# Altium footprint library JST_SH_CONNECTOR.PcbLib: 6 footprints
Each footprint in its own frame and in the unit in brackets; x right, y up, seen from the top. Pads: shape width x height; smd on the part's side, far side on the other; paste and mask are expansions set on the pad; w line width, h text height; cw(c..) or ccw(c..) is an arc to the next point about the centre after c.
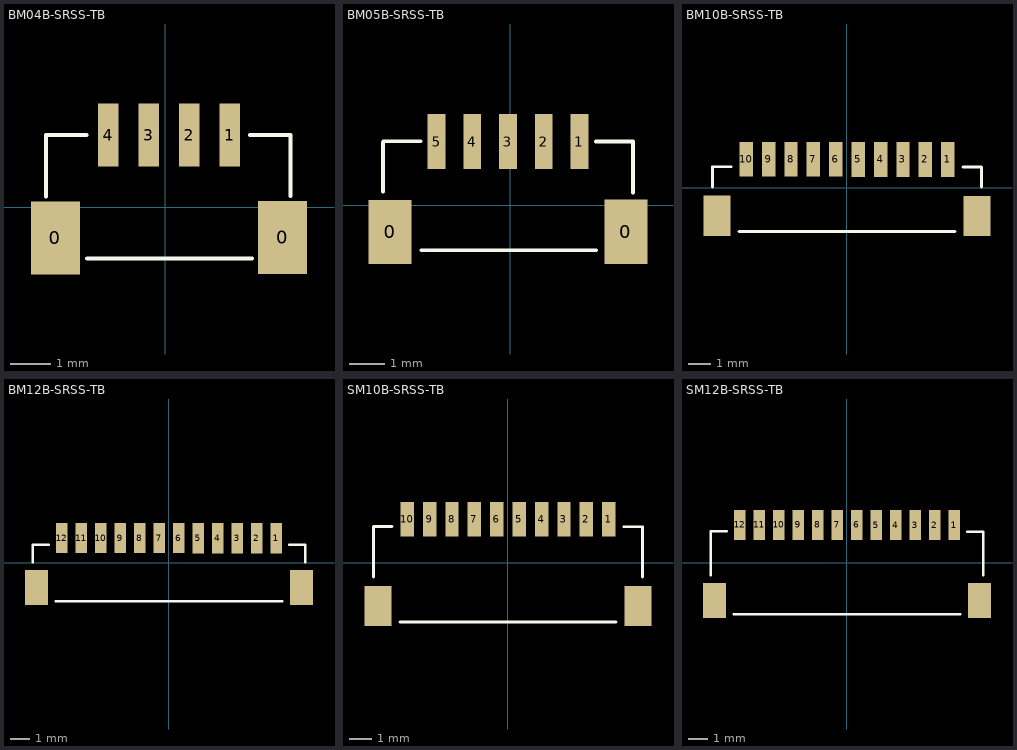
[diagram p0: the footprints below, top view; thin cyan lines are the x and y axes]

## BM04B-SRSS-TB [mm]
pads (6):
  rect 1.2x1.8 smd: 0(-2.712,-0.754) 0(2.887,-0.747)
  rect 0.5x1.55 smd: 1(1.587,1.778) 2(0.587,1.778) 3(-0.413,1.778) 4(-1.412,1.778)
Top Overlay:
  lines w0.102: -2.945,0.262 -2.945,1.762 ; -2.945,1.786 -1.945,1.786 ; -1.929,-1.262 2.135,-1.262 ; 2.087,1.778 3.087,1.778 3.087,0.278
3D body "BM04B-SRSS-TB.STEP": height 4.25, standoff -0.07, extent -2.924,-1.194 3.076,2.406

## BM05B-SRSS-TB [mm]
pads (7):
  rect 1.2x1.8 smd: 0(-3.359,-0.754) 0(3.241,-0.747)
  rect 0.5x1.55 smd: 1(1.941,1.778) 2(0.941,1.778) 3(-0.059,1.778) 4(-1.059,1.778) 5(-2.059,1.778)
Top Overlay:
  lines w0.102: -3.559,0.368 -3.559,1.762 ; -3.556,1.786 -2.503,1.786 ; -2.487,-1.262 2.413,-1.262 ; 2.4,1.778 3.442,1.778 3.441,0.343
3D body "BM05B-SRSS-TB.STEP": height 4.25, standoff -0.07, extent -3.551,-1.246 3.449,2.354

## BM10B-SRSS-TB [mm]
pads (12):
  rect 0.6x1.55 smd: 1(4.5,1.259) 2(3.5,1.259) 3(2.5,1.259) 4(1.5,1.259) 5(0.5,1.259) 6(-0.5,1.266) 7(-1.5,1.266) 8(-2.5,1.266) 9(-3.5,1.266) 10(-4.5,1.266)
  rect 1.2x1.8 smd: ""(-5.8,-1.259) ""(5.8,-1.266)
Top Overlay:
  lines w0.127: -6,0.034 -6,0.934 -5.175,0.934 ; -4.827,-1.966 4.827,-1.966 ; 5.175,0.926 6,0.926 6,0.026
3D body "BM10B-SRSS-TB.STEP": height 4.25, standoff -0.07, extent -6.003,-1.934 5.997,1.666

## BM12B-SRSS-TB [mm]
pads (14):
  rect 0.6x1.55 smd: 1(5.5,1.259) 2(4.5,1.259) 3(3.5,1.259) 4(2.5,1.259) 5(1.5,1.259) 6(0.5,1.266) 7(-0.5,1.266) 8(-1.5,1.266) 9(-2.5,1.266) 10(-3.5,1.266) 11(-4.5,1.266) 12(-5.5,1.266)
  rect 1.2x1.8 smd: ""(-6.8,-1.259) ""(6.8,-1.266)
Top Overlay:
  lines w0.127: -7,0.034 -7,0.934 -6.175,0.934 ; -5.827,-1.966 5.819,-1.966 ; 6.175,0.926 7,0.926 7,0.026
3D body "BM12B-SRSS-TB.STEP": height 4.25, standoff -0.07, extent -6.997,-1.934 7.003,1.666

## SM10B-SRSS-TB [mm]
pads (12):
  rect 0.6x1.55 smd: 1(4.5,1.934) 2(3.5,1.934) 3(2.5,1.934) 4(1.5,1.934) 5(0.5,1.934) 6(-0.5,1.941) 7(-1.5,1.941) 8(-2.5,1.941) 9(-3.5,1.941) 10(-4.5,1.941)
  rect 1.2x1.8 smd: ""(-5.8,-1.941) ""(5.8,-1.941)
Top Overlay:
  lines w0.127: -6,-0.649 -6,1.601 ; -6,1.609 -5.175,1.609 ; -4.827,-2.649 4.827,-2.649 ; 5.175,1.601 6,1.601 6,-0.649
3D body "SM10B-SRSS-TB.STEP": height 2.96, standoff 0, extent -5.993,-2.662 6.007,2.288

## SM12B-SRSS-TB [mm]
pads (14):
  rect 0.6x1.55 smd: 1(5.5,1.934) 2(4.5,1.934) 3(3.5,1.934) 4(2.5,1.934) 5(1.5,1.934) 6(0.5,1.941) 7(-0.5,1.941) 8(-1.5,1.941) 9(-2.5,1.941) 10(-3.5,1.941) 11(-4.5,1.941) 12(-5.5,1.941)
  rect 1.2x1.8 smd: ""(-6.8,-1.941) ""(6.8,-1.941)
Top Overlay:
  lines w0.127: -7,-0.649 -7,1.601 ; -7,1.609 -6.175,1.609 ; -5.819,-2.649 5.827,-2.649 ; 6.175,1.601 7,1.601 7,-0.649
3D body "SM12B-SRSS-TB.STEP": height 2.96, standoff 0, extent -6.987,-2.662 7.013,2.288